# EAGLE library part DECADE-LIBRARIES_DECADE-NRF24AP2-PCB-ANT (library DECADE-libraries)
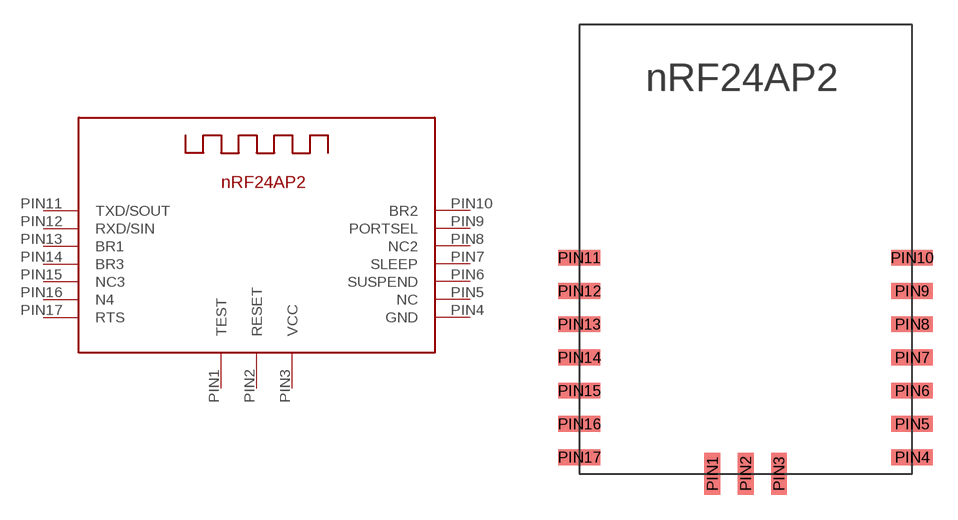
[diagram p13: symbol with the pads of DECADE-LIBRARIES_DECADE-NRF24AP2-PCB; footprint DECADE-LIBRARIES_DECADE-NRF24AP2-PCB]

Designator prefix -

## DECADE-LIBRARIES_DECADE-NRF24AP2-PCB-ANT  [DECADE-LIBRARIES_DECADE-NRF24AP2-PCB]
PIN1  TEST
PIN2  RESET
PIN3  VCC
PIN4  GND
PIN5  NC
PIN6  SUSPEND
PIN7  SLEEP
PIN8  NC2
PIN9  PORTSEL
PIN10  BR2
PIN11  TXD/SOUT
PIN12  RXD/SIN
PIN13  BR1
PIN14  BR3
PIN15  NC3
PIN16  N4
PIN17  RTS

## Footprint DECADE-LIBRARIES_DECADE-NRF24AP2-PCB (pad centres in mm)
smd 0.95 x 2.5: PIN1 -2,-13.81; PIN2 0,-13.81; PIN3 2,-13.81
smd 2.5 x 0.95: PIN4 10,-12.81; PIN5 10,-10.81; PIN6 10,-8.81; PIN7 10,-6.81; PIN8 10,-4.81; PIN9 10,-2.81; PIN10 10,-0.81; PIN11 -10,-0.81; PIN12 -10,-2.81; PIN13 -10,-4.81; PIN14 -10,-6.81; PIN15 -10,-8.81; PIN16 -10,-10.81; PIN17 -10,-12.81